# EAGLE library part STM32F407Z*T (library gost_stm32)
ARM 32-bit Cortex™-M3 CPU 168 MHz maximum frequency 512 to 1024 Kbytes of Flash memory 192 kbytes of SRAM 114 GPIOs 1.8 to 3.6 V application supply
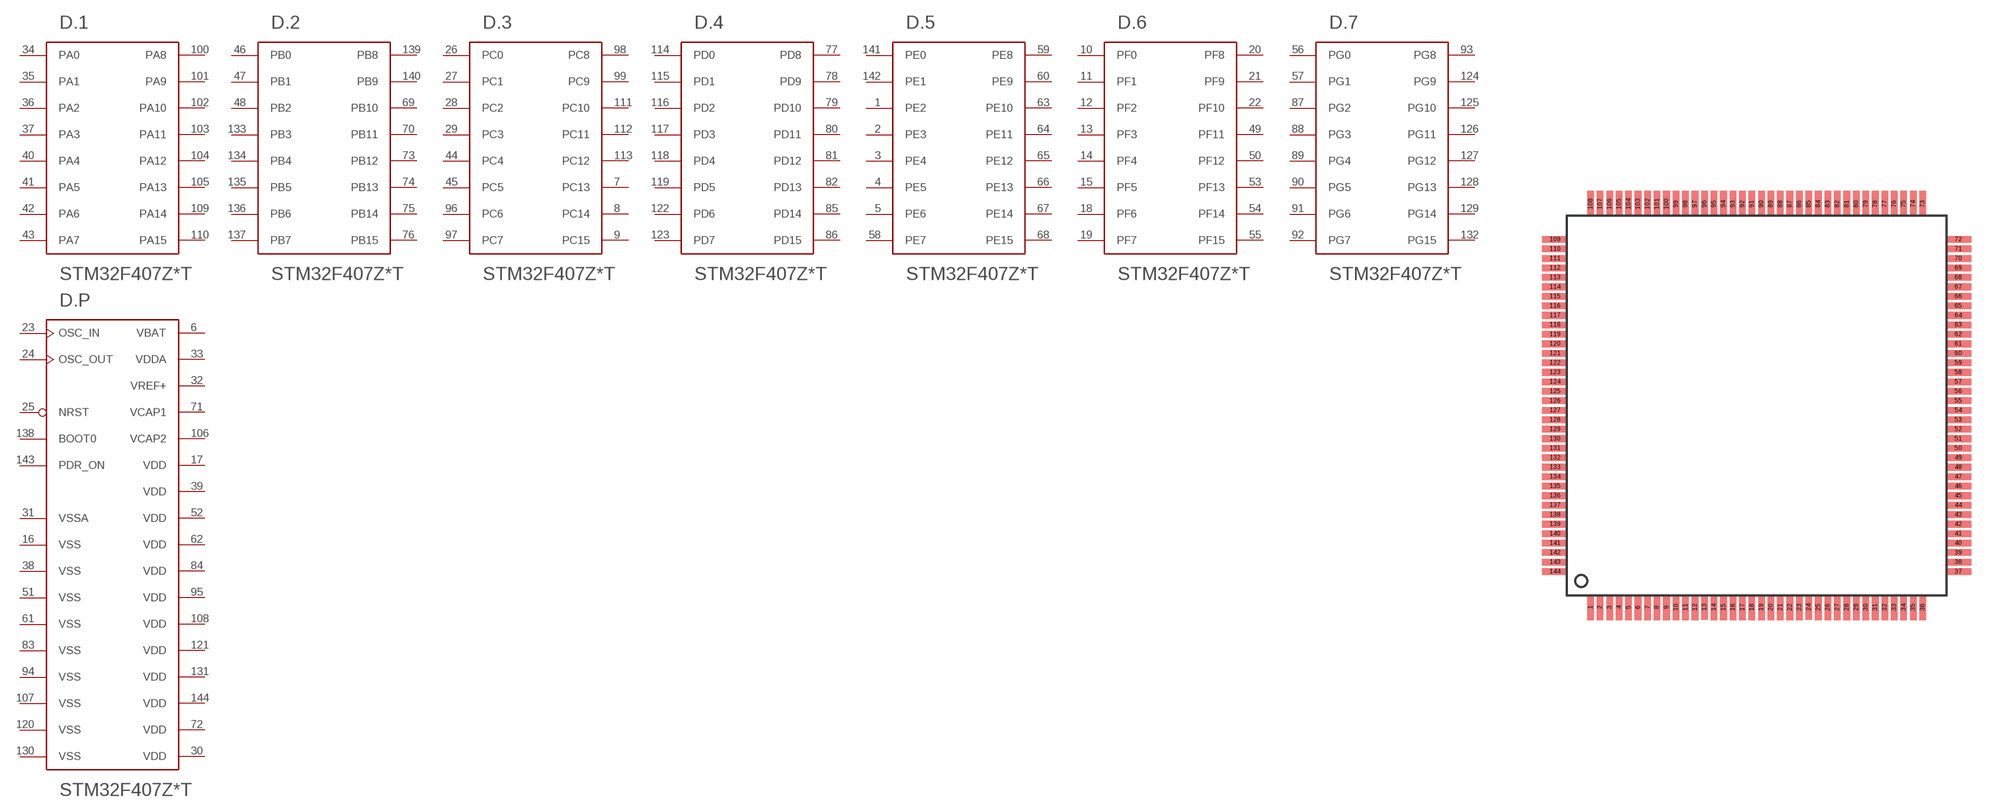
[diagram p2: symbol with the pads of LQFP144; footprint LQFP144]

Designator prefix D; gates .1=PA .2=PB .3=PC .4=PD .5=PE .6=PF .P=F407_QFP144_OSC_PWR .7=PG

## STM32F407ZET, STM32F407ZGT  [LQFP144]
1  .5:PE2
2  .5:PE3
3  .5:PE4
4  .5:PE5
5  .5:PE6
6  .P:VBAT  pwr
7  .3:PC13
8  .3:PC14
9  .3:PC15
10  .6:PF0
11  .6:PF1
12  .6:PF2
13  .6:PF3
14  .6:PF4
15  .6:PF5
16  .P:VSS  pwr
17  .P:VDD  pwr
18  .6:PF6
19  .6:PF7
20  .6:PF8
21  .6:PF9
22  .6:PF10
23  .P:OSC_IN
24  .P:OSC_OUT
25  .P:NRST
26  .3:PC0
27  .3:PC1
28  .3:PC2
29  .3:PC3
30  .P:VDD  pwr
31  .P:VSSA  pwr
32  .P:VREF+  pwr
33  .P:VDDA  pwr
34  .1:PA0
35  .1:PA1
36  .1:PA2
37  .1:PA3
38  .P:VSS  pwr
39  .P:VDD  pwr
40  .1:PA4
41  .1:PA5
42  .1:PA6
43  .1:PA7
44  .3:PC4
45  .3:PC5
46  .2:PB0
47  .2:PB1
48  .2:PB2
49  .6:PF11
50  .6:PF12
51  .P:VSS  pwr
52  .P:VDD  pwr
53  .6:PF13
54  .6:PF14
55  .6:PF15
56  .7:PG0
57  .7:PG1
58  .5:PE7
59  .5:PE8
60  .5:PE9
61  .P:VSS  pwr
62  .P:VDD  pwr
63  .5:PE10
64  .5:PE11
65  .5:PE12
66  .5:PE13
67  .5:PE14
68  .5:PE15
69  .2:PB10
70  .2:PB11
71  .P:VCAP1  pwr
72  .P:VDD  pwr
73  .2:PB12
74  .2:PB13
75  .2:PB14
76  .2:PB15
77  .4:PD8
78  .4:PD9
79  .4:PD10
80  .4:PD11
81  .4:PD12
82  .4:PD13
83  .P:VSS  pwr
84  .P:VDD  pwr
85  .4:PD14
86  .4:PD15
87  .7:PG2
88  .7:PG3
89  .7:PG4
90  .7:PG5
91  .7:PG6
92  .7:PG7
93  .7:PG8
94  .P:VSS  pwr
95  .P:VDD  pwr
96  .3:PC6
97  .3:PC7
98  .3:PC8
99  .3:PC9
100  .1:PA8
101  .1:PA9
102  .1:PA10
103  .1:PA11
104  .1:PA12
105  .1:PA13
106  .P:VCAP2  pwr
107  .P:VSS  pwr
108  .P:VDD  pwr
109  .1:PA14
110  .1:PA15
111  .3:PC10
112  .3:PC11
113  .3:PC12
114  .4:PD0
115  .4:PD1
116  .4:PD2
117  .4:PD3
118  .4:PD4
119  .4:PD5
120  .P:VSS  pwr
121  .P:VDD  pwr
122  .4:PD6
123  .4:PD7
124  .7:PG9
125  .7:PG10
126  .7:PG11
127  .7:PG12
128  .7:PG13
129  .7:PG14
130  .P:VSS  pwr
131  .P:VDD  pwr
132  .7:PG15
133  .2:PB3
134  .2:PB4
135  .2:PB5
136  .2:PB6
137  .2:PB7
138  .P:BOOT0  in
139  .2:PB8
140  .2:PB9
141  .5:PE0
142  .5:PE1
143  .P:PDR_ON  in
144  .P:VDD  pwr

## Footprint LQFP144 (pad centres in mm)
LQFP144 20 x 20 mm, 144-pin low-profile quad flat package
smd 0.35 x 1.35: 1 -8.75,-10.625; 2 -8.25,-10.625; 3 -7.75,-10.625; 4 -7.25,-10.625; 5 -6.75,-10.625; 6 -6.25,-10.625; 7 -5.75,-10.625; 8 -5.25,-10.625; 9 -4.75,-10.625; 10 -4.25,-10.625; 11 -3.75,-10.625; 12 -3.25,-10.625; 13 -2.75,-10.62; 14 -2.25,-10.625; 15 -1.75,-10.625; 16 -1.25,-10.625; 17 -0.75,-10.625; 18 -0.25,-10.625; 19 0.25,-10.625; 20 0.75,-10.625; 21 1.25,-10.625; 22 1.75,-10.625; 23 2.25,-10.625; 24 2.75,-10.62; 25 3.25,-10.625; 26 3.75,-10.625; 27 4.25,-10.625; 28 4.75,-10.625; 29 5.25,-10.625; 30 5.75,-10.625; 31 6.25,-10.625; 32 6.75,-10.625; 33 7.25,-10.625; 34 7.75,-10.625; 35 8.25,-10.625; 36 8.75,-10.625; 73 8.75,10.625; 74 8.25,10.625; 75 7.75,10.625; 76 7.25,10.625; 77 6.75,10.625; 78 6.25,10.625; 79 5.75,10.625; 80 5.25,10.625; 81 4.75,10.625; 82 4.25,10.625; 83 3.75,10.625; 84 3.25,10.625; 85 2.75,10.625; 86 2.25,10.625; 87 1.75,10.625; 88 1.25,10.625; 89 0.75,10.625; 90 0.25,10.625; 91 -0.25,10.625; 92 -0.75,10.625; 93 -1.25,10.625; 94 -1.75,10.625; 95 -2.25,10.625; 96 -2.75,10.625; 97 -3.25,10.625; 98 -3.75,10.625; 99 -4.25,10.625; 100 -4.75,10.625; 101 -5.25,10.625; 102 -5.75,10.625; 103 -6.25,10.625; 104 -6.75,10.625; 105 -7.25,10.625; 106 -7.75,10.625; 107 -8.25,10.625; 108 -8.75,10.625
smd 1.35 x 0.35: 37 10.625,-8.75; 38 10.625,-8.25; 39 10.625,-7.75; 40 10.625,-7.25; 41 10.625,-6.75; 42 10.625,-6.25; 43 10.625,-5.75; 44 10.625,-5.25; 45 10.625,-4.75; 46 10.625,-4.25; 47 10.625,-3.75; 48 10.625,-3.25; 49 10.625,-2.75; 50 10.625,-2.25; 51 10.625,-1.75; 52 10.625,-1.25; 53 10.625,-0.75; 54 10.625,-0.25; 55 10.625,0.25; 56 10.625,0.75; 57 10.625,1.25; 58 10.625,1.75; 59 10.625,2.25; 60 10.625,2.75; 61 10.625,3.25; 62 10.625,3.75; 63 10.625,4.25; 64 10.625,4.75; 65 10.625,5.25; 66 10.625,5.75; 67 10.625,6.25; 68 10.625,6.75; 69 10.625,7.25; 70 10.625,7.75; 71 10.625,8.25; 72 10.625,8.75; 109 -10.625,8.75; 110 -10.625,8.25; 111 -10.625,7.75; 112 -10.625,7.25; 113 -10.625,6.75; 114 -10.625,6.25; 115 -10.625,5.75; 116 -10.625,5.25; 117 -10.625,4.75; 118 -10.625,4.25; 119 -10.625,3.75; 120 -10.625,3.25; 121 -10.625,2.75; 122 -10.625,2.25; 123 -10.625,1.75; 124 -10.625,1.25; 125 -10.625,0.75; 126 -10.625,0.25; 127 -10.625,-0.25; 128 -10.625,-0.75; 129 -10.625,-1.25; 130 -10.625,-1.75; 131 -10.625,-2.25; 132 -10.625,-2.75; 133 -10.625,-3.25; 134 -10.625,-3.75; 135 -10.625,-4.25; 136 -10.625,-4.75; 137 -10.625,-5.25; 138 -10.625,-5.75; 139 -10.625,-6.25; 140 -10.625,-6.75; 141 -10.625,-7.25; 142 -10.625,-7.75; 143 -10.625,-8.25; 144 -10.625,-8.75